# EAGLE library part XFORM (library ZMPLC)
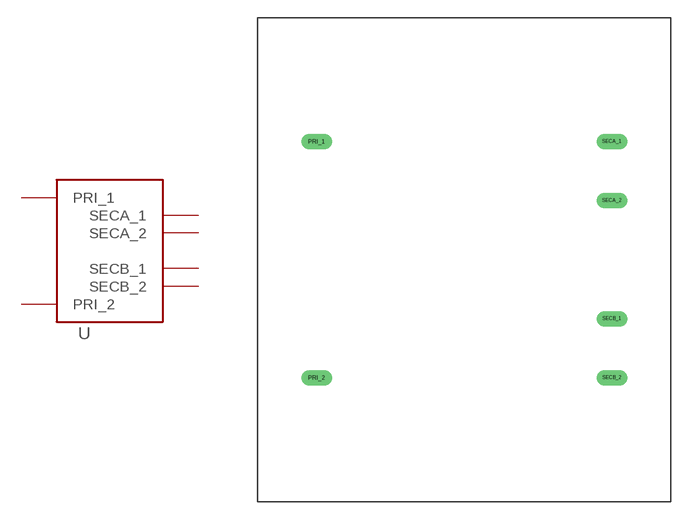
[diagram p23: symbol with the pads of TRANSFORMER; footprint TRANSFORMER]

Designator prefix -

## XFORM  [TRANSFORMER]
PRI_1  PRI_1  pas
PRI_2  PRI_2  pas
SECA_1  SECA_1  pas
SECA_2  SECA_2  pas
SECB_1  SECB_1  pas
SECB_2  SECB_2  pas

## Footprint TRANSFORMER (pad centres in mm)
drill 0.8 long: PRI_1 5,30.5; PRI_2 5,10.5; SECA_1 30,30.5; SECA_2 30,25.5; SECB_1 30,15.5; SECB_2 30,10.5